# Altium footprint library Common_library.PcbLib: 11 footprints
Each footprint in its own frame and in the unit in brackets; x right, y up, seen from the top. Pads: shape width x height; smd on the part's side, far side on the other; paste and mask are expansions set on the pad; w line width, h text height; cw(c..) or ccw(c..) is an arc to the next point about the centre after c.
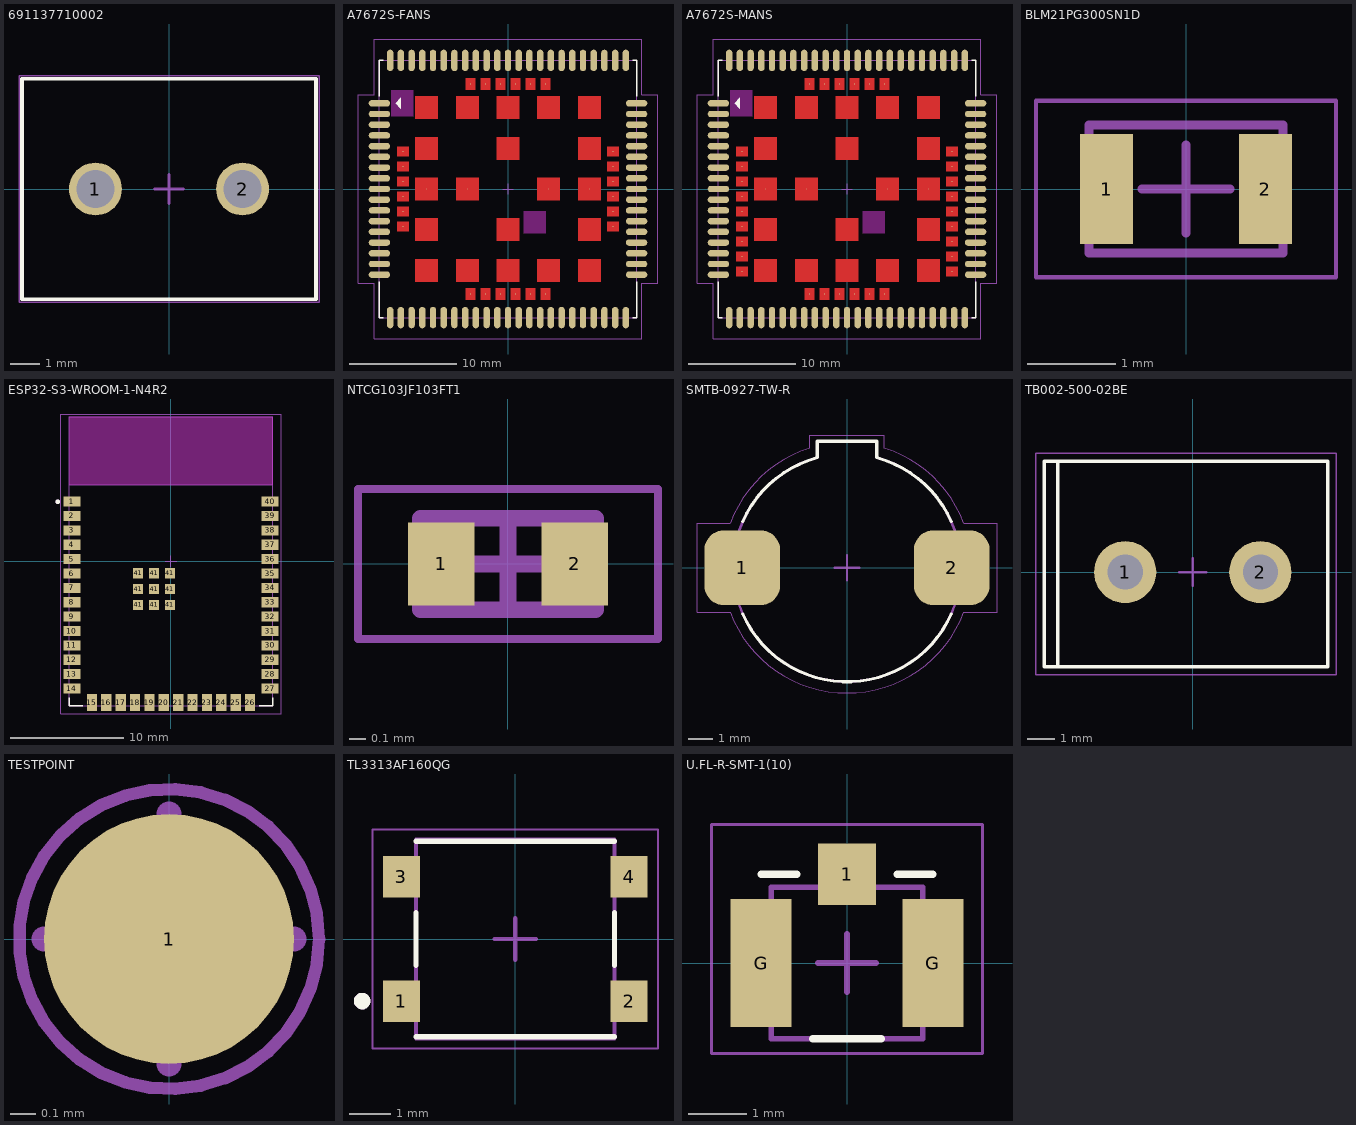
[diagram p0: the footprints below, top view; thin cyan lines are the x and y axes]

## 691137710002 [mm] "2 Position Wire to Board Terminal Block Horizontal with Board 0.197\" (5.00mm) Through Hole"
height 11.6
pads (2):
  round 1.8 hole 1.3: 1(-2.5,0) 2(2.5,0)
Top Overlay:
  lines w0.127: -5,-3.75 -5,3.75 5,3.75 5,-3.75 -5,-3.75
Top Assembly:
  lines w0.1: -5,-3.75 -5,3.75 5,3.75 5,-3.75 -5,-3.75
  text ".Designator" at -2.252,-0.226 h1
Top Courtyard:
  lines w0.05: -5.1,-3.85 -5.1,3.85 5.1,3.85 5.1,-3.85 -5.1,-3.85
  lines w0.1: -0.5,0 0.5,0 ; 0,-0.5 0,0.5
3D body "691137710002+%28rev1%29.stp": height 11.5, standoff -3.6, extent -5,-3.75 5,3.75

## A7672S-FANS [mm] "Cellular EDGE, GPRS, GSM, LTE Transceiver Module 900MHz, 1.8GHz Surface Mount"
height 2.6
pads (124):
  oval 2x0.6 smd mask+0.05: 1(-12,8) 2(-12,7) 3(-12,6) 4(-12,5) 5(-12,4) 6(-12,3) 7(-12,2) 8(-12,1) 9(-12,0) 10(-12,-1) 11(-12,-2) 12(-12,-3) 13(-12,-4) 14(-12,-5) 15(-12,-6) 16(-12,-7) 17(-12,-8) 35(12,-8) 36(12,-7) 37(12,-6) 38(12,-5) 39(12,-4) 40(12,-3) 41(12,-2) 42(12,-1) 43(12,0) 44(12,1) 45(12,2) 46(12,3) 47(12,4) 48(12,5) 49(12,6) 50(12,7) 51(12,8)
  oval 0.6x2 smd mask+0.05: 18(-8,-12) 19(-7,-12) 20(-6,-12) 21(-5,-12) 22(-4,-12) 23(-3,-12) 24(-2,-12) 25(-1,-12) 26(0,-12) 27(1,-12) 28(2,-12) 29(3,-12) 30(4,-12) 31(5,-12) 32(6,-12) 33(7,-12) 34(8,-12) 52(8,12) 53(7,12) 54(6,12) 55(5,12) 56(4,12) 57(3,12) 58(2,12) 59(1,12) 60(0,12) 61(-1,12) 62(-2,12) 63(-3,12) 64(-4,12) 65(-5,12) 66(-6,12) 67(-7,12) 68(-8,12) 89(-11,-12) 90(-10,-12) 91(-9,-12) 92(9,-12) 93(10,-12) 94(11,-12) 95(11,12) 96(10,12) 97(9,12) 98(-9,12) 99(-10,12) 100(-11,12)
  round 0.025 smd paste-2539.97 mask+0.05: 69(-7.6,7.6) 70(-7.6,3.8) 71(-7.6,0) 72(-7.6,-3.8) 73(-7.6,-7.6) 74(-3.8,-7.6) 75(0,-7.6) 76(3.8,-7.6) 77(7.6,-7.6) 78(7.6,-3.8) 79(7.6,0) 80(7.6,3.8) 81(7.6,7.6) 82(3.8,7.6) 83(0,7.6) 84(-3.8,7.6) 85(-3.8,0) 86(0,-3.8) 87(3.8,0) 88(0,3.8) 101(-9.8,3.5) 102(-9.8,2.1) 103(-9.8,0.7) 104(-9.8,-0.7) 105(-9.8,-2.1) 106(-9.8,-3.5) 107(-3.5,-9.8) 108(-2.1,-9.8) 109(-0.7,-9.8) 110(0.7,-9.8) 111(2.1,-9.8) 112(3.5,-9.8) 113(9.8,-3.5) 114(9.8,-2.1) 115(9.8,-0.7) 116(9.8,0.7) 117(9.8,2.1) 118(9.8,3.5) 119(3.5,9.8) 120(2.1,9.8) 121(0.7,9.8) 122(-0.7,9.8) 123(-2.1,9.8) 124(-3.5,9.8)
Top Layer:
  region: -10.35,3.05 -10.35,3.95 -9.25,3.95 -9.25,3.05
  region: -10.35,1.65 -10.35,2.55 -9.25,2.55 -9.25,1.65
  region: -10.35,0.25 -10.35,1.15 -9.25,1.15 -9.25,0.25
  region: -10.35,-1.15 -10.35,-0.25 -9.25,-0.25 -9.25,-1.15
  region: -10.35,-2.55 -10.35,-1.65 -9.25,-1.65 -9.25,-2.55
  region: -10.35,-3.95 -10.35,-3.05 -9.25,-3.05 -9.25,-3.95
  region: 9.25,3.05 9.25,3.95 10.35,3.95 10.35,3.05
  region: 9.25,1.65 9.25,2.55 10.35,2.55 10.35,1.65
  region: 9.25,0.25 9.25,1.15 10.35,1.15 10.35,0.25
  region: 9.25,-1.15 9.25,-0.25 10.35,-0.25 10.35,-1.15
  region: 9.25,-2.55 9.25,-1.65 10.35,-1.65 10.35,-2.55
  region: 9.25,-3.95 9.25,-3.05 10.35,-3.05 10.35,-3.95
  region: 3.05,-9.25 3.95,-9.25 3.95,-10.35 3.05,-10.35
  region: 1.65,-9.25 2.55,-9.25 2.55,-10.35 1.65,-10.35
  region: 0.25,-9.25 1.15,-9.25 1.15,-10.35 0.25,-10.35
  region: -1.15,-9.25 -0.25,-9.25 -0.25,-10.35 -1.15,-10.35
  region: -2.55,-9.25 -1.65,-9.25 -1.65,-10.35 -2.55,-10.35
  region: -3.95,-9.25 -3.05,-9.25 -3.05,-10.35 -3.95,-10.35
  region: 3.05,10.35 3.95,10.35 3.95,9.25 3.05,9.25
  region: 1.65,10.35 2.55,10.35 2.55,9.25 1.65,9.25
  region: 0.25,10.35 1.15,10.35 1.15,9.25 0.25,9.25
  region: -1.15,10.35 -0.25,10.35 -0.25,9.25 -1.15,9.25
  region: -2.55,10.35 -1.65,10.35 -1.65,9.25 -2.55,9.25
  region: 4.85,1.05 2.75,1.05 2.75,-1.05 4.85,-1.05
  region: -6.55,8.65 -8.65,8.65 -8.65,6.55 -6.55,6.55
  region: -2.75,8.65 -4.85,8.65 -4.85,6.55 -2.75,6.55
  region: 1.05,8.65 -1.05,8.65 -1.05,6.55 1.05,6.55
  region: 4.85,8.65 2.75,8.65 2.75,6.55 4.85,6.55
  region: 8.65,8.65 6.55,8.65 6.55,6.55 8.65,6.55
  region: -6.55,-6.55 -8.65,-6.55 -8.65,-8.65 -6.55,-8.65
  region: -2.75,-6.55 -4.85,-6.55 -4.85,-8.65 -2.75,-8.65
  region: 1.05,-6.55 -1.05,-6.55 -1.05,-8.65 1.05,-8.65
  region: 4.85,-6.55 2.75,-6.55 2.75,-8.65 4.85,-8.65
  region: 8.65,-6.55 6.55,-6.55 6.55,-8.65 8.65,-8.65
  region: 6.55,-2.75 6.55,-4.85 8.65,-4.85 8.65,-2.75
  region: 6.55,1.05 6.55,-1.05 8.65,-1.05 8.65,1.05
  region: 6.55,4.85 6.55,2.75 8.65,2.75 8.65,4.85
  region: -8.65,-2.75 -8.65,-4.85 -6.55,-4.85 -6.55,-2.75
  region: -8.65,1.05 -8.65,-1.05 -6.55,-1.05 -6.55,1.05
  region: -8.65,4.85 -8.65,2.75 -6.55,2.75 -6.55,4.85
  region: 1.05,4.85 -1.05,4.85 -1.05,2.75 1.05,2.75
  region: -2.75,1.05 -4.85,1.05 -4.85,-1.05 -2.75,-1.05
  region: 1.05,-2.75 -1.05,-2.75 -1.05,-4.85 1.05,-4.85
  region: -3.95,10.35 -3.05,10.35 -3.05,9.25 -3.95,9.25
Top Layer keep-out:
  region: -10.9,9.2 -8.85,9.2 -8.85,6.8 -10.9,6.8
  region: 1.475,-2.075 3.525,-2.075 3.525,-4.125 1.475,-4.125
Top Overlay:
  region: -10.5,8 -10,8.5 -10,7.5
  lines w0.127: -12,-8.664 -12,-12 -11.664,-12 ; -12,8.664 -12,12 -11.664,12 ; 11.664,-12 12,-12 12,-8.664 ; 11.664,12 12,12 12,8.664
Top Paste:
  drawing of 128 lines, arcs and shapes, not listed
Top Assembly:
  region: -10.5,8 -10,8.5 -10,7.5
  lines w0.1: -12,-12 -12,12 12,12 12,-12 -12,-12
  text ".Designator" at -2.252,-0.226 h1
Top Courtyard:
  lines w0.05: -14,-8.8 -14,8.8 -12.5,8.8 -12.5,14 12.5,14 12.5,8.8 14,8.8 14,-8.8 12.5,-8.8 12.5,-14 -12.5,-14 -12.5,-8.8 -14,-8.8
  lines w0.1: -0.5,0 0.5,0 ; 0,-0.5 0,0.5
3D body "A7672S--3DModel-STEP-269445.STEP": height 2.6, standoff 0, extent -12,-12 12,12

## A7672S-MANS [mm] "Cellular EDGE, GPRS, GSM, LTE Transceiver Module 900MHz, 1.8GHz Surface Mount"
height 2.6
pads (130):
  oval 2x0.6 smd mask+0.05: 1(-12,8) 2(-12,7) 3(-12,6) 4(-12,5) 5(-12,4) 6(-12,3) 7(-12,2) 8(-12,1) 9(-12,0) 10(-12,-1) 11(-12,-2) 12(-12,-3) 13(-12,-4) 14(-12,-5) 15(-12,-6) 16(-12,-7) 17(-12,-8) 35(12,-8) 36(12,-7) 37(12,-6) 38(12,-5) 39(12,-4) 40(12,-3) 41(12,-2) 42(12,-1) 43(12,0) 44(12,1) 45(12,2) 46(12,3) 47(12,4) 48(12,5) 49(12,6) 50(12,7) 51(12,8)
  oval 0.6x2 smd mask+0.05: 18(-8,-12) 19(-7,-12) 20(-6,-12) 21(-5,-12) 22(-4,-12) 23(-3,-12) 24(-2,-12) 25(-1,-12) 26(0,-12) 27(1,-12) 28(2,-12) 29(3,-12) 30(4,-12) 31(5,-12) 32(6,-12) 33(7,-12) 34(8,-12) 52(8,12) 53(7,12) 54(6,12) 55(5,12) 56(4,12) 57(3,12) 58(2,12) 59(1,12) 60(0,12) 61(-1,12) 62(-2,12) 63(-3,12) 64(-4,12) 65(-5,12) 66(-6,12) 67(-7,12) 68(-8,12) 89(-11,-12) 90(-10,-12) 91(-9,-12) 92(9,-12) 93(10,-12) 94(11,-12) 95(11,12) 96(10,12) 97(9,12) 98(-9,12) 99(-10,12) 100(-11,12)
  round 0.025 smd paste-2539.97 mask+0.05: 69(-7.6,7.6) 70(-7.6,3.8) 71(-7.6,0) 72(-7.6,-3.8) 73(-7.6,-7.6) 74(-3.8,-7.6) 75(0,-7.6) 76(3.8,-7.6) 77(7.6,-7.6) 78(7.6,-3.8) 79(7.6,0) 80(7.6,3.8) 81(7.6,7.6) 82(3.8,7.6) 83(0,7.6) 84(-3.8,7.6) 85(-3.8,0) 86(0,-3.8) 87(3.8,0) 88(0,3.8) 101(-9.8,3.5) 102(-9.8,2.1) 103(-9.8,0.7) 104(-9.8,-0.7) 105(-9.8,-2.1) 106(-9.8,-3.5) 107(-3.5,-9.8) 108(-2.1,-9.8) 109(-0.7,-9.8) 110(0.7,-9.8) 111(2.1,-9.8) 112(3.5,-9.8) 113(9.8,-3.5) 114(9.8,-2.1) 115(9.8,-0.7) 116(9.8,0.7) 117(9.8,2.1) 118(9.8,3.5) 119(3.5,9.8) 120(2.1,9.8) 121(0.7,9.8) 122(-0.7,9.8) 123(-2.1,9.8) 124(-3.5,9.8) 125(-9.8,-4.9) 126(-9.8,-6.3) 127(-9.8,-7.7) 128(9.8,-7.7) 129(9.8,-6.3) 130(9.8,-4.9)
Top Layer:
  region: -3.95,10.35 -3.05,10.35 -3.05,9.25 -3.95,9.25
  region: 1.05,-2.75 -1.05,-2.75 -1.05,-4.85 1.05,-4.85
  region: -2.75,1.05 -4.85,1.05 -4.85,-1.05 -2.75,-1.05
  region: 1.05,4.85 -1.05,4.85 -1.05,2.75 1.05,2.75
  region: -8.65,4.85 -8.65,2.75 -6.55,2.75 -6.55,4.85
  region: -8.65,1.05 -8.65,-1.05 -6.55,-1.05 -6.55,1.05
  region: -8.65,-2.75 -8.65,-4.85 -6.55,-4.85 -6.55,-2.75
  region: 6.55,4.85 6.55,2.75 8.65,2.75 8.65,4.85
  region: 6.55,1.05 6.55,-1.05 8.65,-1.05 8.65,1.05
  region: 6.55,-2.75 6.55,-4.85 8.65,-4.85 8.65,-2.75
  region: 8.65,-6.55 6.55,-6.55 6.55,-8.65 8.65,-8.65
  region: 4.85,-6.55 2.75,-6.55 2.75,-8.65 4.85,-8.65
  region: 1.05,-6.55 -1.05,-6.55 -1.05,-8.65 1.05,-8.65
  region: -2.75,-6.55 -4.85,-6.55 -4.85,-8.65 -2.75,-8.65
  region: -6.55,-6.55 -8.65,-6.55 -8.65,-8.65 -6.55,-8.65
  region: 8.65,8.65 6.55,8.65 6.55,6.55 8.65,6.55
  region: 4.85,8.65 2.75,8.65 2.75,6.55 4.85,6.55
  region: 1.05,8.65 -1.05,8.65 -1.05,6.55 1.05,6.55
  region: -2.75,8.65 -4.85,8.65 -4.85,6.55 -2.75,6.55
  region: -6.55,8.65 -8.65,8.65 -8.65,6.55 -6.55,6.55
  region: 4.85,1.05 2.75,1.05 2.75,-1.05 4.85,-1.05
  region: -2.55,10.35 -1.65,10.35 -1.65,9.25 -2.55,9.25
  region: -1.15,10.35 -0.25,10.35 -0.25,9.25 -1.15,9.25
  region: 0.25,10.35 1.15,10.35 1.15,9.25 0.25,9.25
  region: 1.65,10.35 2.55,10.35 2.55,9.25 1.65,9.25
  region: 3.05,10.35 3.95,10.35 3.95,9.25 3.05,9.25
  region: -3.95,-9.25 -3.05,-9.25 -3.05,-10.35 -3.95,-10.35
  region: -2.55,-9.25 -1.65,-9.25 -1.65,-10.35 -2.55,-10.35
  region: -1.15,-9.25 -0.25,-9.25 -0.25,-10.35 -1.15,-10.35
  region: 0.25,-9.25 1.15,-9.25 1.15,-10.35 0.25,-10.35
  region: 1.65,-9.25 2.55,-9.25 2.55,-10.35 1.65,-10.35
  region: 3.05,-9.25 3.95,-9.25 3.95,-10.35 3.05,-10.35
  region: 9.25,-3.95 9.25,-3.05 10.35,-3.05 10.35,-3.95
  region: 9.25,-2.55 9.25,-1.65 10.35,-1.65 10.35,-2.55
  region: 9.25,-1.15 9.25,-0.25 10.35,-0.25 10.35,-1.15
  region: 9.25,0.25 9.25,1.15 10.35,1.15 10.35,0.25
  region: 9.25,1.65 9.25,2.55 10.35,2.55 10.35,1.65
  region: 9.25,3.05 9.25,3.95 10.35,3.95 10.35,3.05
  region: -10.35,-3.95 -10.35,-3.05 -9.25,-3.05 -9.25,-3.95
  region: -10.35,-2.55 -10.35,-1.65 -9.25,-1.65 -9.25,-2.55
  region: -10.35,-1.15 -10.35,-0.25 -9.25,-0.25 -9.25,-1.15
  region: -10.35,0.25 -10.35,1.15 -9.25,1.15 -9.25,0.25
  region: -10.35,1.65 -10.35,2.55 -9.25,2.55 -9.25,1.65
  region: -10.35,3.05 -10.35,3.95 -9.25,3.95 -9.25,3.05
  region: -10.35,-8.15 -10.35,-7.25 -9.25,-7.25 -9.25,-8.15
  region: -10.35,-6.75 -10.35,-5.85 -9.25,-5.85 -9.25,-6.75
  region: -10.35,-5.35 -10.35,-4.45 -9.25,-4.45 -9.25,-5.35
  region: 9.25,-8.15 9.25,-7.25 10.35,-7.25 10.35,-8.15
  region: 9.25,-6.75 9.25,-5.85 10.35,-5.85 10.35,-6.75
  region: 9.25,-5.35 9.25,-4.45 10.35,-4.45 10.35,-5.35
Top Layer keep-out:
  region: 1.475,-2.075 3.525,-2.075 3.525,-4.125 1.475,-4.125
  region: -10.9,9.2 -8.85,9.2 -8.85,6.8 -10.9,6.8
Top Overlay:
  region: -10.5,8 -10,8.5 -10,7.5
  lines w0.127: -12,-8.664 -12,-12 -11.664,-12 ; -12,8.664 -12,12 -11.664,12 ; 11.664,-12 12,-12 12,-8.664 ; 11.664,12 12,12 12,8.664
Top Paste:
  drawing of 140 lines, arcs and shapes, not listed
Top Assembly:
  region: -10.5,8 -10,8.5 -10,7.5
  lines w0.1: -12,-12 12,-12 12,12 -12,12 -12,-12
  text ".Designator" at -2.252,-0.226 h1
Top Courtyard:
  lines w0.05: -14,-8.8 -12.5,-8.8 -12.5,-14 12.5,-14 12.5,-8.8 14,-8.8 14,8.8 12.5,8.8 12.5,14 -12.5,14 -12.5,8.8 -14,8.8 -14,-8.8
  lines w0.1: -0.5,0 0.5,0 ; 0,-0.5 0,0.5
3D body "A7672S--3DModel-STEP-269445.STEP": height 2.6, standoff 0, extent -12,-12 12,12

## BLM21PG300SN1D [mm] "30 Ohms @ 100 MHz 1 Power Line Ferrite Bead 0805 (2012 Metric) 4A 14mOhm"
height 1.05
pads (2):
  rect 0.6x1.25 smd mask+0.05: 1(-0.9,0) 2(0.9,0)
Top Assembly:
  lines w0.1: -1.1,-0.725 -1.1,0.725 1.1,0.725 1.1,-0.725 -1.1,-0.725
  text ".Designator" at -0.897,-0.09 h0.4
Top Courtyard:
  lines w0.05: -1.7,-1 -1.7,1 1.7,1 1.7,-1 -1.7,-1
  lines w0.1: -0.5,0 0.5,0 ; 0,-0.5 0,0.5
3D body "RESC2012X10N.step": height 1.05, standoff 0, extent -1.1,-0.725 1.1,0.725

## ESP32-S3-WROOM-1-N4R2 [mm] "RF TX RX MODULE WIFI BT PCB TRACE SMD"
height 3.25
pads (49):
  rect 1.5x0.9 smd mask+0.05: 1(-8.75,5.26) 2(-8.75,3.99) 3(-8.75,2.72) 4(-8.75,1.45) 5(-8.75,0.18) 6(-8.75,-1.09) 7(-8.75,-2.36) 8(-8.75,-3.63) 9(-8.75,-4.9) 10(-8.75,-6.17) 11(-8.75,-7.44) 12(-8.75,-8.71) 13(-8.75,-9.98) 14(-8.75,-11.25) 27(8.75,-11.25) 28(8.75,-9.98) 29(8.75,-8.71) 30(8.75,-7.44) 31(8.75,-6.17) 32(8.75,-4.9) 33(8.75,-3.63) 34(8.75,-2.36) 35(8.75,-1.09) 36(8.75,0.18) 37(8.75,1.45) 38(8.75,2.72) 39(8.75,3.99) 40(8.75,5.26)
  rect 0.9x1.5 smd mask+0.05: 15(-6.985,-12.5) 16(-5.715,-12.5) 17(-4.445,-12.5) 18(-3.175,-12.5) 19(-1.905,-12.5) 20(-0.635,-12.5) 21(0.635,-12.5) 22(1.905,-12.5) 23(3.175,-12.5) 24(4.445,-12.5) 25(5.715,-12.5) 26(6.985,-12.5)
  rect 0.9x0.9 smd mask+0.05: 41(-2.9,-3.86) 41(-2.9,-2.46) 41(-2.9,-1.06) 41(-1.5,-3.86) 41(-1.5,-2.46) 41(-1.5,-1.06) 41(-0.1,-3.86) 41(-0.1,-2.46) 41(-0.1,-1.06)
Top Overlay:
  circle w0.2: c-10,5.26 r0.1
  lines w0.127: -9,-12.064 -9,-12.75 -7.798,-12.75 ; 7.798,-12.75 9,-12.75 9,-12.064
Keep-Out Layer:
  region: 9,6.75 -9,6.75 -9,12.75 9,12.75
Top Assembly:
  circle w0.2: c-10,5.26 r0.1
  lines w0.1: -9,6.75 -9,-12.75 9,-12.75 9,6.75 ; -9,6.75 -9,12.75 9,12.75 9,6.75 ; -9,6.75 9,6.75
  text "'.Designator'" at -2.417,-0.226 h1
  text "ANTENNA" at -6.665,9 h2
Top Courtyard:
  lines w0.05: -9.75,-13.5 -9.75,13 9.75,13 9.75,-13.5 -9.75,-13.5
  lines w0.1: -0.5,0 0.5,0 ; 0,-0.5 0,0.5
3D body "step_temp.STEP": height 3.25, standoff 0, extent -9,-12.75 9,12.75

## NTCG103JF103FT1 [mm] "NTC Thermistor 10k 0402 (1005 Metric)"
height 0.55
pads (2):
  rect 0.4x0.5 smd mask+0.07: 1(-0.4,0) 2(0.4,0)
Top Assembly:
  lines w0.1: -0.525,-0.275 -0.525,0.275 0.525,0.275 0.525,-0.275 -0.525,-0.275
  text ".Designator" at -0.451,-0.045 h0.2
Top Courtyard:
  lines w0.05: -0.9,-0.45 -0.9,0.45 0.9,0.45 0.9,-0.45 -0.9,-0.45
  lines w0.1: -0.275,0 0.275,0 ; 0,-0.275 0,0.275
3D body "RESC1005X06N.step": height 0.55, standoff 0, extent -0.525,-0.275 0.525,0.275

## SMTB-0927-TW-R [mm] "Transducer, Electro-Mechanical, 95 dBA, 2.7 kHz, Liquid Crystal Polymer, SMD"
height 4.8
pads (2):
  rrect50% 3.05x3 smd: 1(-4.225,0) 2(4.225,0)
Top Overlay:
  lines w0.127: -4.206,-1.864 ccw(c0,0) 4.206,-1.864 ; -4.206,1.864 cw(c0,0) -1.198,4.441 ; -1.2,4.45 -1.2,5.1 1.2,5.1 1.2,4.45 ; 1.198,4.441 cw(c0,0) 4.206,1.864
Top Assembly:
  lines w0.1: -1.2,4.45 -1.2,5.1 1.2,5.1 1.2,4.45 ; -1.198,4.441 ccw(c0,0) 1.198,4.441
  text ".Designator" at -2.252,-0.226 h1
Top Courtyard:
  lines w0.05: -4.72,-1.8 -6.05,-1.8 -6.05,1.8 -4.72,1.8 ; -4.719,-1.799 ccw(c0,0) 4.719,-1.799 ; -4.719,1.799 cw(c0,0) -1.501,4.822 ; -1.5,4.82 -1.5,5.35 1.5,5.35 1.5,4.82 ; 1.501,4.822 cw(c0,0) 4.719,1.799 ; 4.72,-1.8 6.05,-1.8 6.05,1.8 4.72,1.8
  lines w0.1: -0.5,0 0.5,0 ; 0,-0.5 0,0.5
3D body "SMTB-0927-TW-R--3DModel-STEP-461651.STEP": height 4.65, standoff 0, extent -5.4,-4.6 5.4,5.1

## TB002-500-02BE [mm] "2 Position Wire to Board Terminal Block Horizontal with Board 0.197\" (5.00mm) Through Hole"
height 10
pads (2):
  round 2.3 hole 1.3: 1(-2.5,0) 2(2.5,0)
Top Overlay:
  lines w0.127: -5,-3.5 -5,4.1 ; -5.5,-3.5 5,-3.5 5,4.1 -5.5,4.1 -5.5,-3.5
Top Assembly:
  lines w0.1: -5,-3.5 -5,4.1 ; -5.5,-3.5 -5.5,4.1 5,4.1 5,-3.5 -5.5,-3.5
  text ".Designator" at -2.252,-0.226 h1
Top Courtyard:
  lines w0.05: -5.8,-3.8 -5.8,4.4 5.3,4.4 5.3,-3.8 -5.8,-3.8
  lines w0.1: -0.5,0 0.5,0 ; 0,-0.5 0,0.5
3D body "TB002-500-02BE--3DModel-STEP-1.STEP": height 10.02, standoff -4.33, extent -5.5,-3.45 5,4.15

## TESTPOINT [mm] "1mm Test Point"
pads (1):
  round 1 smd mask+0.05: 1(0,0)
Top Assembly:
  text ".Designator" at -0.451,-0.045 h0.2
Top Courtyard:
  circle w0.05: c0,0 r0.6
  lines w0.1: -0.5,0 0.5,0 ; 0,-0.5 0,0.5

## TL3313AF160QG [mm] "SWITCH TACTILE SPST-NO 0.05A 12V"
height 1.5
pads (4):
  rect 0.9x1 smd mask+0.05: 1(-2.75,-1.5) 2(2.75,-1.5) 3(-2.75,1.5) 4(2.75,1.5)
Top Overlay:
  circle w0.2: c-3.7,-1.5 r0.1
  lines w0.127: -2.4,-2.364 2.4,-2.364 ; -2.4,-0.636 -2.4,0.636 ; -2.4,2.364 2.4,2.364 ; 2.4,-0.636 2.4,0.636
Top Assembly:
  circle w0.2: c-3.7,-1.5 r0.1
  lines w0.1: -2.4,-2.4 -2.4,2.4 2.4,2.4 2.4,-2.4 -2.4,-2.4
  text "'.Designator'" at -1.932,-0.181 h0.8
Top Courtyard:
  lines w0.05: -3.45,-2.65 3.45,-2.65 3.45,2.65 -3.45,2.65 -3.45,-2.65
  lines w0.1: -0.5,0 0.5,0 ; 0,-0.5 0,0.5
3D body "step_temp.STEP": height 1.5, standoff 0, extent -3,-2.3 3,2.3

## U.FL-R-SMT-1(10) [mm] "U.FL (UMCC) Connector Receptacle, Male Pin 50 Ohms Surface Mount Solder"
height 1.45
pads (3):
  rect 1x1.05 smd paste-2539.97 mask+0.05: 1(0,1.525)
  rect 1.05x2.2 smd paste-2539.97 mask+0.05: G(-1.475,0) G(1.475,0)
Top Overlay:
  lines w0.127: -1.475,1.525 -0.863,1.525 ; -0.587,-1.3 0.587,-1.3 ; 0.863,1.525 1.475,1.525
Top Paste:
  region: -0.4,1.1 -0.4,1.95 0.4,1.95 0.4,1.1
  region: 1.025,-1 1.025,1 1.925,1 1.925,-1
  region: -1.925,-1 -1.925,1 -1.025,1 -1.025,-1
Top Assembly:
  lines w0.1: -1.3,-1.3 -1.3,1.3 1.3,1.3 1.3,-1.3 -1.3,-1.3
  text ".Designator" at -1.126,-0.113 h0.5
Top Courtyard:
  lines w0.05: -2.325,-1.55 -2.325,2.375 2.325,2.375 2.325,-1.55 -2.325,-1.55
  lines w0.1: -0.5,0 0.5,0 ; 0,-0.5 0,0.5
3D body "U.FL-R-SMT-1(10)--3DModel-STEP-56544.STEP": height 1.25, standoff 0, extent -1.5,-1.55 1.5,1.55